# Altium footprint library PCB - LEADED - SOT95P280X145-6N.PcbLib: 1 footprints
Each footprint in its own frame and in the unit in brackets; x right, y up, seen from the top. Pads: shape width x height; smd on the part's side, far side on the other; paste and mask are expansions set on the pad; w line width, h text height; cw(c..) or ccw(c..) is an arc to the next point about the centre after c.
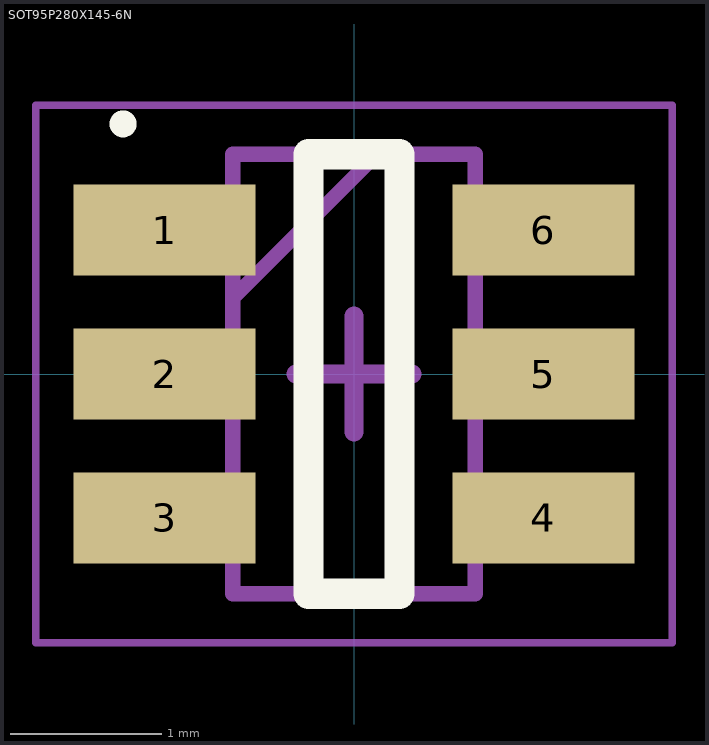
[diagram p0: the footprint, top view; thin cyan lines are the x and y axes]

## SOT95P280X145-6N [mm]
pads (6):
  rect 1.2x0.6 smd: 1(-1.25,0.95) 2(-1.25,0) 3(-1.25,-0.95) 4(1.25,-0.95) 5(1.25,0) 6(1.25,0.95)
Top Overlay:
  circle w0.127: c-1.524,1.651 r0.025
  lines w0.2: -0.3,-1.45 -0.3,1.45 0.3,1.45 0.3,-1.45 -0.3,-1.45
Top Assembly:
  lines w0.1: -0.8,0.5 0.15,1.45 ; -0.8,-1.45 -0.8,1.45 0.8,1.45 0.8,-1.45 -0.8,-1.45
Top Courtyard:
  lines w0.05: -2.1,-1.775 -2.1,1.775 2.1,1.775 2.1,-1.775 -2.1,-1.775
Top Designator:
  text ".Designator" at -1.956,1.981 h0.38
Top Component Center:
  lines w0.127: -0.381,0 0,0 ; 0,-0.381 0,0 ; 0,0.381 0,0 ; 0.381,0 0,0
3D body "SN74LVC2G14DBVR.stp": height 1.2, standoff 0, extent -1.4,-1.45 1.4,1.45